# EAGLE library part 06PINOS (library Arduino-clone)
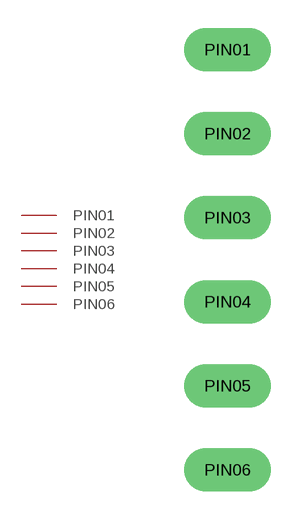
[diagram p1: symbol with the pads of 06PINOS; footprint 06PINOS]

Designator prefix -

## 06PINOS  [06PINOS]
PIN01  PIN01
PIN02  PIN02
PIN03  PIN03
PIN04  PIN04
PIN05  PIN05
PIN06  PIN06

## Footprint 06PINOS (pad centres in mm)
Arduino Pro Mini Clone
drill 0.8 long: PIN01 -6.35,26.67; PIN02 -6.35,24.13; PIN03 -6.35,21.59; PIN04 -6.35,19.05; PIN05 -6.35,16.51; PIN06 -6.35,13.97